# Altium footprint library Sensor.PcbLib: 1 footprints
Each footprint in its own frame and in the unit in brackets; x right, y up, seen from the top. Pads: shape width x height; smd on the part's side, far side on the other; paste and mask are expansions set on the pad; w line width, h text height; cw(c..) or ccw(c..) is an arc to the next point about the centre after c.
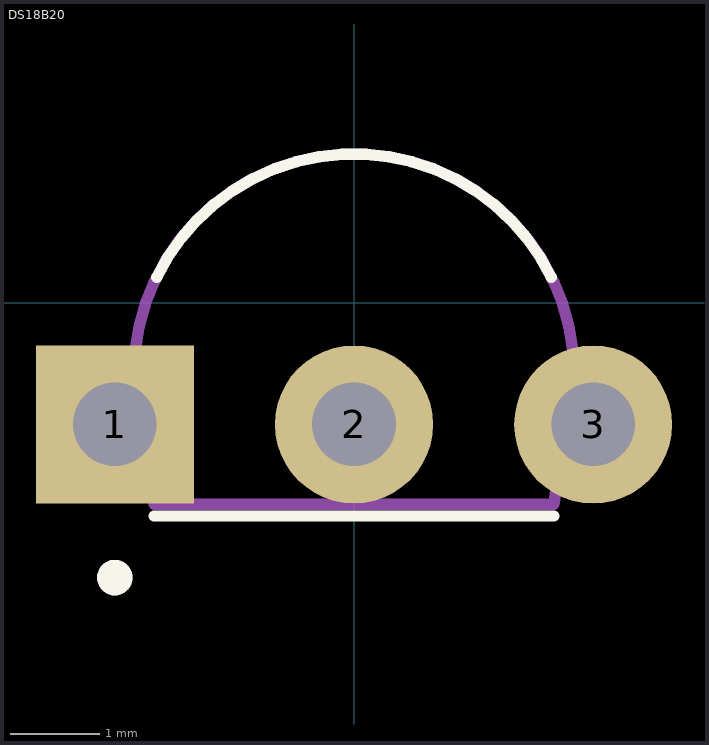
[diagram p0: the footprint, top view; thin cyan lines are the x and y axes]

## DS18B20 [mm]
pads (3):
  rect 1.778x1.778 hole 0.94: 1(-2.69,-1.37)
  round 1.778 hole 0.94: 2(0,-1.37) 3(2.69,-1.37)
Top Overlay:
  circle w0.2: c-2.69,-3.093 r0.1
  lines w0.127: -2.246,-2.4 2.246,-2.4 ; -2.219,0.285 cw(c0,-0.797) 2.219,0.285
Mechanical 13:
  circle w0.2: c-2.69,-3.093 r0.1
  lines w0.127: -2.475,-0.803 cw(c0,-0.803) 2.475,-0.803 2.246,-2.268 -2.246,-2.268 -2.475,-0.803
3D body "ALSRobot-TO-92W.STEP": height 7.24, standoff -4.06, extent -2.765,-3.084 2.765,1.016